# EAGLE library part NSJ12HC (library CYCFI_Jack)
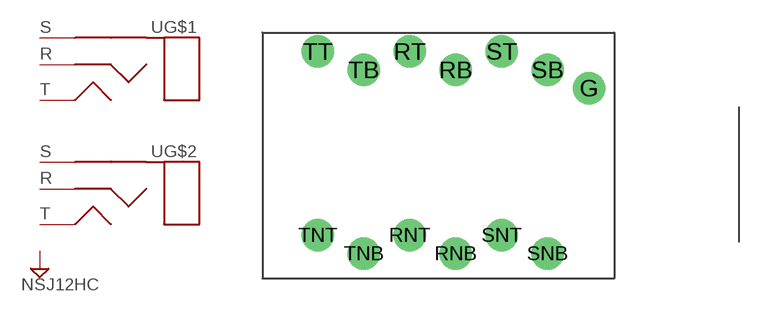
[diagram p0: symbol with the pads of NSJ12HC; footprint NSJ12HC]

Designator prefix -; gates G$1=STEREO_JACK G$2=STEREO_JACK G$3=GND

## NSJ12HC  [NSJ12HC]
G  G$3:DGND  sup
RB  G$2:R
RT  G$1:R
SB  G$2:S
ST  G$1:S
TB  G$2:T
TT  G$1:T

## Footprint NSJ12HC (pad centres in mm)
drill 1.5: G -1.73,5.96; RB -10.95,7.23; RNB -10.95,-5.47; RNT -14.13,-4.2; RT -14.13,8.5; SB -4.61,7.23; SNB -4.61,-5.47; SNT -7.78,-4.2; ST -7.78,8.5; TB -17.3,7.23; TNB -17.3,-5.47; TNT -20.48,-4.2; TT -20.48,8.5